# EAGLE library part RJ45-8-SHIELD (library balto)
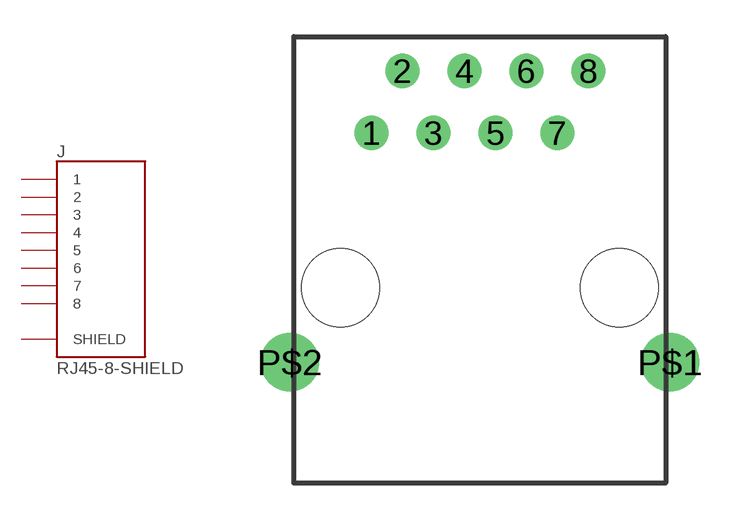
[diagram p51: symbol with the pads of RJ45-8-SHIELD; footprint RJ45-8-SHIELD]

Designator prefix J

## RJ45-8-SHIELD-PTH  [RJ45-8-SHIELD]
1  1
2  2
3  3
4  4
5  5
6  6
7  7
8  8
P$1  SHIELD
P$2  SHIELD

## Footprint RJ45-8-SHIELD (pad centres in mm)
drill 0.9: 1 -4.445,6.35; 2 -3.175,8.89; 3 -1.905,6.35; 4 -0.635,8.89; 5 0.635,6.35; 6 1.905,8.89; 7 3.175,6.35; 8 4.445,8.89
drill 1.6: P$1 7.795,-3.05; P$2 -7.795,-3.05
hole 3.2 at -5.715,0
hole 3.2 at 5.715,0